# EAGLE library part BG213L (library BLE)
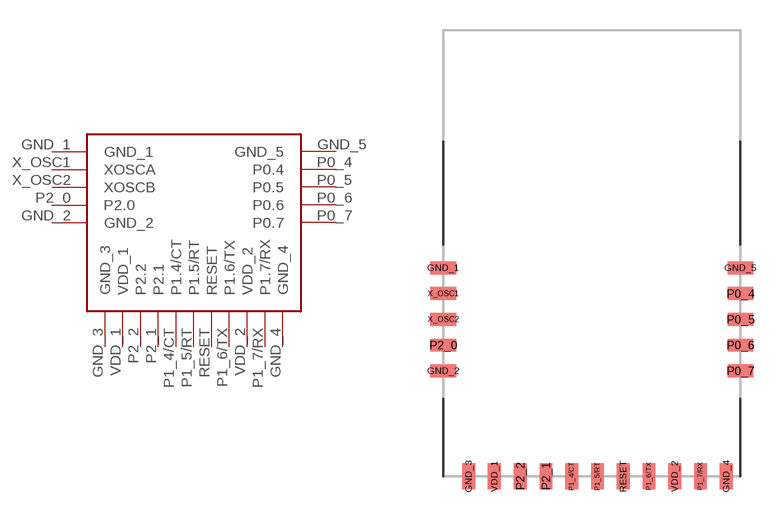
[diagram p0: symbol with the pads of BG312L; footprint BG312L]

Designator prefix -

## BG213L  [BG312L]
GND_1  GND_1
GND_2  GND_2
GND_3  GND_3
GND_4  GND_4
GND_5  GND_5
P0_4  P0.4
P0_5  P0.5
P0_6  P0.6
P0_7  P0.7
P1_4/CT  P1.4/CT
P1_5/RT  P1.5/RT
P1_6/TX  P1.6/TX
P1_7/RX  P1.7/RX
P2_0  P2.0
P2_1  P2.1
P2_2  P2.2
RESET  RESET
VDD_1  VDD_1
VDD_2  VDD_2
X_OSC1  XOSCA
X_OSC2  XOSCB

## Footprint BG312L (pad centres in mm)
smd 1.27 x 0.635: GND_1 0,10.28; GND_2 0,5.2; GND_5 14.65,10.28; P0_4 14.65,9.01; P0_5 14.65,7.74; P0_6 14.65,6.47; P0_7 14.65,5.2; P2_0 0,6.47; X_OSC1 0,9.01; X_OSC2 0,7.74
smd 0.635 x 1.27: GND_3 1.25,0; GND_4 13.95,0; P1_4/CT 6.33,0; P1_5/RT 7.6,0; P1_6/TX 10.14,0; P1_7/RX 12.68,0; P2_1 5.06,0; P2_2 3.79,0; RESET 8.87,0; VDD_1 2.52,0; VDD_2 11.41,0